# EAGLE library part CLY6D-FKC (library PP_LED)
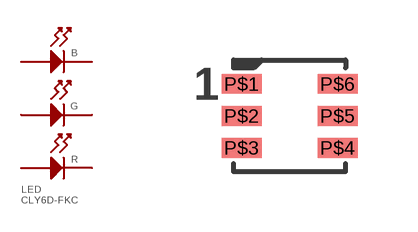
[diagram p3: symbol with the pads of CLY6D-FKC; footprint CLY6D-FKC]

Designator prefix LED

## CLY6D-FKC  [CLY6D-FKC]
P$1  CATHODE_BLUE
P$2  CATHODE_GREEN
P$3  CATHODE_RED
P$4  ANODE_RED
P$5  ANODE_GREEN
P$6  ANODE_BLUE

## Footprint CLY6D-FKC (pad centres in mm)
smd 1 x 0.5: P$1 -1.2,0.8; P$2 -1.2,0; P$3 -1.2,-0.8; P$4 1.2,-0.8; P$5 1.2,0; P$6 1.2,0.8